# Altium schematic symbol library WR-TBL-3643-PLUG.SchLib: 1 symbol
Pins are listed as number, name and electrical type; pins without a type are passive.

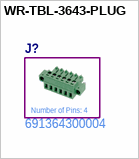
[diagram p0: symbol WR-TBL-3643-PLUG]

## WR-TBL-3643-PLUG
designator J?  Manufacturer Part Number: 691364300004  Number of Pins: 4  (hidden comment: *)
WR-TBL 3643; Number of Rows: 1